# EAGLE library part 1734352 (library con-subd)
SUB-D MALE 9-POS R/A AMP/Tyco
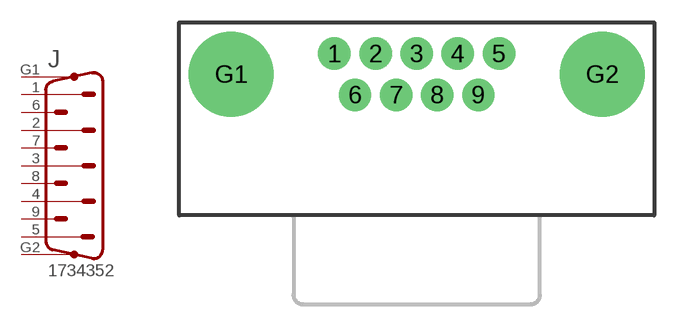
[diagram p82: symbol with the pads of 1734352; footprint 1734352]

Designator prefix J

## 1734352  [1734352]
1  1  pas
2  2  pas
3  3  pas
4  4  pas
5  5  pas
6  6  pas
7  7  pas
8  8  pas
9  9  pas
G1  G1  pas
G2  G2  pas

## Footprint 1734352 (pad centres in mm)
SUB-D MALE 9-POS R/A AMP/Tyco
drill 1.27 pad 2.184: 1 -5.54,1.385; 2 -2.77,1.385; 3 0,1.385; 4 2.77,1.385; 5 5.54,1.385; 6 -4.155,-1.385; 7 -1.385,-1.385; 8 1.385,-1.385; 9 4.155,-1.385
drill 3.251 pad 5.715: G1 -12.495,0; G2 12.495,0